# EAGLE library part 750811643 (library Wurth Electronics Midcom Inc - EAGLE Lib V2-1)
Package Style: EFD20 Mounting: SMD Pins: 12 pins Bobbin: 070-5900 Best pinouts for production vary per application. Please contact Wurth Electronics Midcom, Inc. for assistance with your custom design. Website: Wurth Electronics Midcom <http://www.we-online.com/midcom> Contact us Wurth Electronics Midcom, Inc. 121 Airport Dr. Watertown, SD 57201 Phone: (605) 886-4385 Fax: (605) 886-4486 E-Mail: midcom@we-online.com
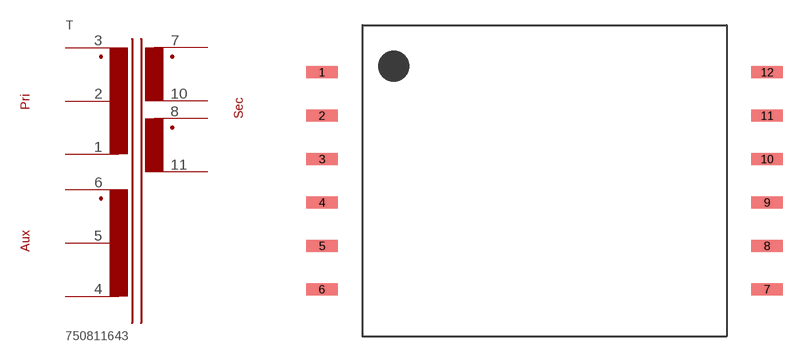
[diagram p281: symbol with the pads of EFD20_SMD_H_12PIN_(5900); footprint EFD20_SMD_H_12PIN_(5900)]

Designator prefix T

## 750811643  [EFD20_SMD_H_12PIN_(5900)]
1  1  pas
2  2  pas
3  3  pas
4  4  pas
5  5  pas
6  6  pas
7  7  pas
8  8  pas
10  10  pas
11  11  pas

## Footprint EFD20_SMD_H_12PIN_(5900) (pad centres in mm)
Package Style: EFD20 Mounting: SMD Pins: 12 Bobbin: 070-5900
smd 2.159 x 0.838: 1 -15.354,7.493; 2 -15.354,4.496; 3 -15.354,1.499; 4 -15.354,-1.499; 5 -15.354,-4.496; 6 -15.354,-7.493; 7 15.354,-7.493; 8 15.354,-4.496; 9 15.354,-1.499; 10 15.354,1.499; 11 15.354,4.496; 12 15.354,7.493